# Altium footprint library Senior-Analog-batteryrecharge.PcbLib: 16 footprints
Each footprint in its own frame and in the unit in brackets; x right, y up, seen from the top. Pads: shape width x height; smd on the part's side, far side on the other; paste and mask are expansions set on the pad; w line width, h text height; cw(c..) or ccw(c..) is an arc to the next point about the centre after c.
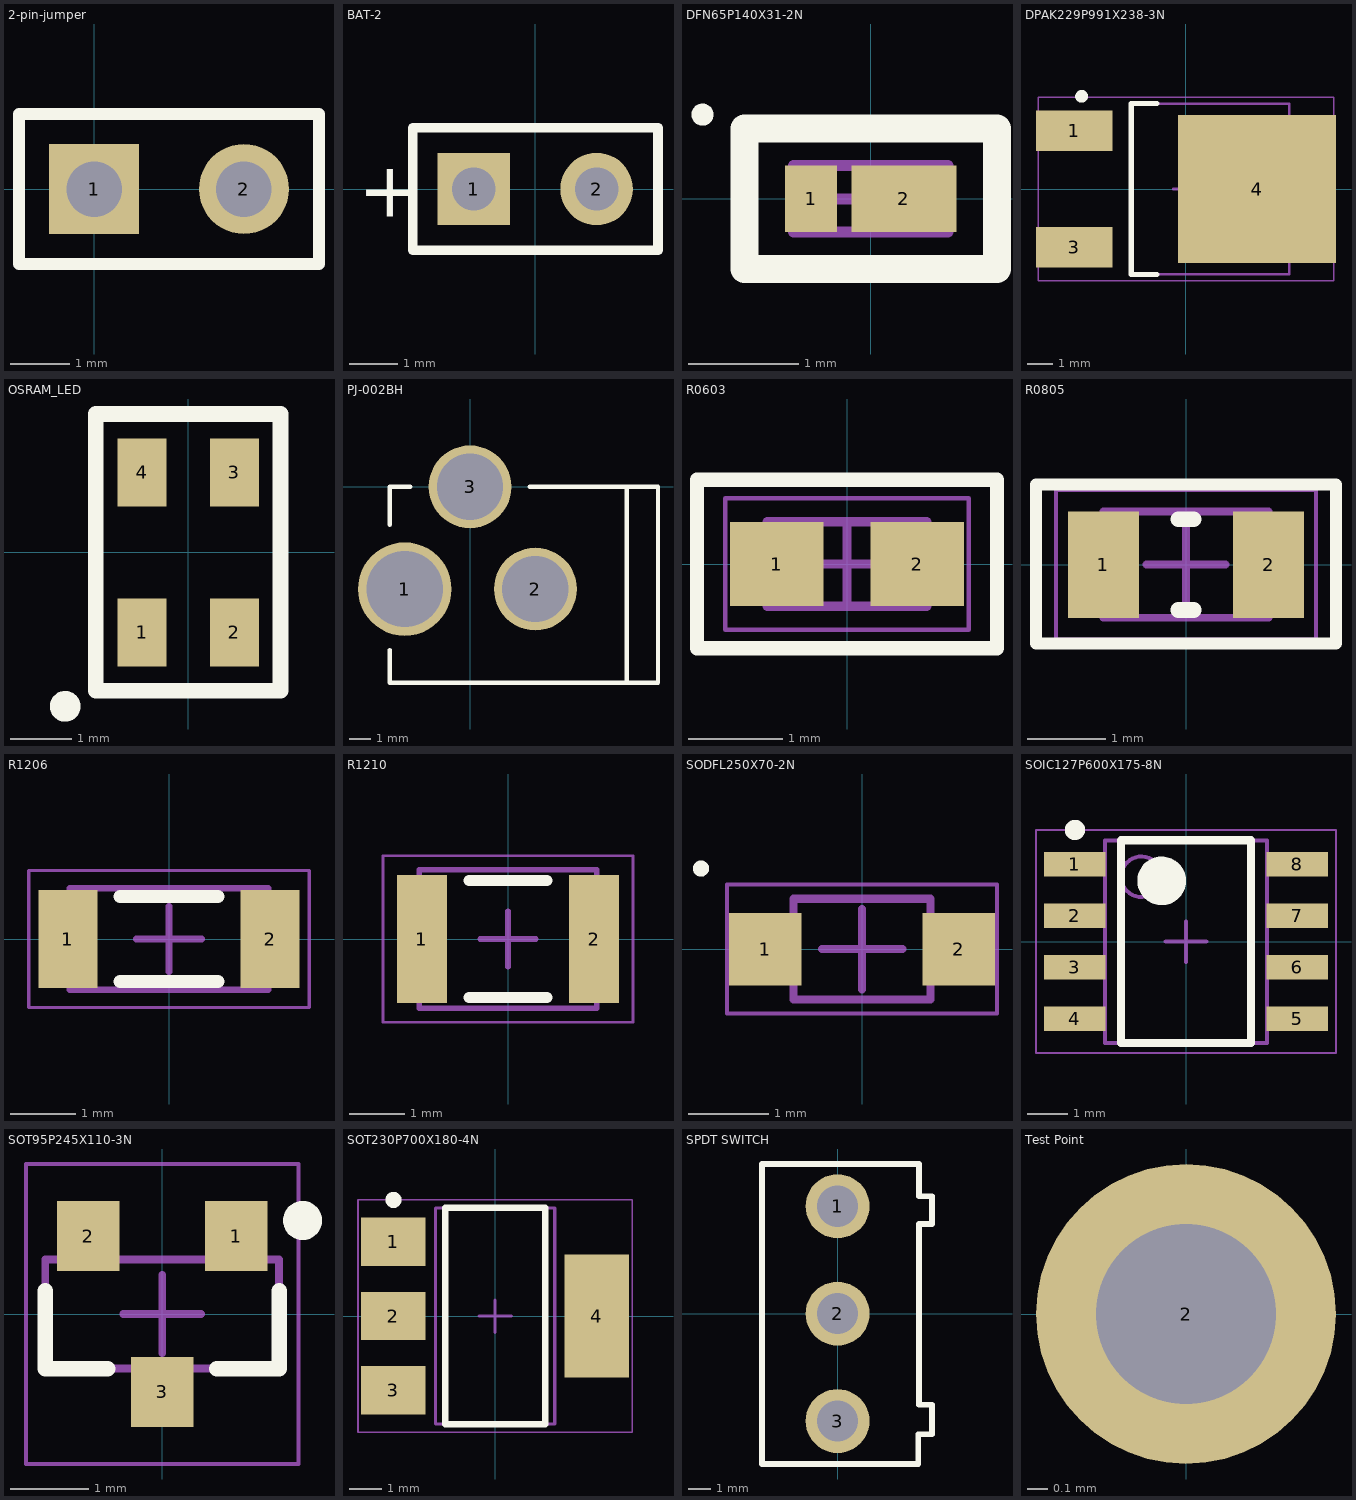
[diagram p0: the footprints below, top view; thin cyan lines are the x and y axes]

## 2-pin-jumper [mil]
pads (2):
  rect 60x60 hole 37: 1(0,0)
  round 60 hole 37: 2(100,0)
Top Overlay:
  lines w7.87: -50,-50 -50,50 150,50 150,-50 -50,-50

## BAT-2 [mm] "Battery; 2 Leads"
pads (2):
  rect 1.5x1.5 hole 0.9: 1(-1.27,0)
  round 1.5 hole 0.9: 2(1.27,0)
Top Overlay:
  lines w0.2: -2.54,-1.27 2.54,-1.27 2.54,1.27 -2.54,1.27 -2.54,-1.27
  text "+" at -3.67,-0.577 h1.15

## DFN65P140X31-2N [mm] "DFN, 2-Leads, Body 0.60x1.40mm, Pitch 0.65mm, IPC Medium Density"
height 0.31
pads (2):
  rect 0.47x0.6 smd: 1(-0.54,0)
  rect 0.95x0.6 smd: 2(0.3,0)
Top Overlay:
  circle w0.1: c-1.524,0.762 r0.05
  lines w0.254: -1.143,-0.635 1.143,-0.635 1.143,0.635 -1.143,0.635 -1.143,-0.635
Mechanical 13:
  lines w0.1: -0.7,-0.3 0.7,-0.3 0.7,0.3 -0.7,0.3 -0.7,-0.3
Mechanical 15:
  lines w0.1: -0.5,0 0.5,0
3D body: height 0.31, standoff 0.05, extent -0.7,-0.3 0.7,0.3

## DPAK229P991X238-3N [mm] "D-PAK, 3-Pads, Body 6.20x6.72mm (max), IPC Medium Density"
height 2.38
pads (3):
  rect 3x1.6 smd: 1(-4.39,2.29) 3(-4.39,-2.29)
  rect 6.2x5.8 smd: 4(2.79,0)
Top Overlay:
  circle w0.25: c-4.1,3.64 r0.125
  lines w0.2: -1.15,-3.35 -2.15,-3.35 -2.15,3.35 -1.15,3.35
Mechanical 13:
  lines w0.1: -2.15,-3.35 4.05,-3.35 4.05,3.35 -2.15,3.35 -2.15,-3.35
Mechanical 15:
  lines w0.05: -5.8,-3.6 5.8,-3.6 5.8,3.6 -5.8,3.6 -5.8,-3.6
  lines w0.1: -0.5,0 0.5,0 ; 0,-0.5 0,0.5
3D body: height 2.38, standoff 0, extent -0.508,-3.35 5.692,3.35

## OSRAM_LED [mm]
pads (4):
  rect 0.8x1.1 smd: 1(-0.75,-1.3) 2(0.75,-1.3) 3(0.75,1.3) 4(-0.75,1.3)
Top Overlay:
  circle w0.25: c-2,-2.5 r0.125
  lines w0.254: -1.5,-2.25 1.5,-2.25 1.5,2.25 -1.5,2.25 -1.5,-2.25

## PJ-002BH [mm] "2.5 mm Center Pin, 5.0 A, Right Angle, Through Hole, Dc Power Jack Connector"
pads (3):
  round 4.3 hole 3.5 paste+0: 1(-3,-4.7)
  round 3.81 hole 3.048 paste+0: 2(3,-4.7) 3(0,0)
Top Overlay:
  lines w0.203: -3.7,-7.5 -3.7,-9 8.636,-9 8.636,0 2.75,0 ; -3.7,-1.75 -3.7,0 -2.75,0 ; 7.2,-9 7.2,0

## R0603 [mm] "Chip Resistor, 2-Leads, Body 1.60x0.80mm, IPC Medium Density"
height 0.55
pads (2):
  rect 1x0.9 smd: 1(-0.75,0) 2(0.75,0)
Top Overlay:
  lines w0.152: -1.6,-0.9 1.6,-0.9 1.6,0.9 -1.6,0.9 -1.6,-0.9
Mechanical 13:
  lines w0.1: -0.85,-0.45 0.85,-0.45 0.85,0.45 -0.85,0.45 -0.85,-0.45
Mechanical 15:
  lines w0.05: -1.3,-0.7 1.3,-0.7 1.3,0.7 -1.3,0.7 -1.3,-0.7
  lines w0.1: -0.45,0 0.45,0 ; 0,-0.45 0,0.45
3D body: height 0.55, standoff 0, extent 0.6,-0.45 0.85,0.45
3D body: height 0.55, standoff 0, extent -0.85,-0.45 -0.6,0.45
3D body: height 0.55, standoff 0, extent -0.6,-0.45 0.6,0.45

## R0805 [mm] "Chip Resistor, 2-Leads, Body 2.00x1.25mm, IPC Medium Density"
height 0.6
pads (2):
  rect 0.9x1.35 smd: 1(-1.05,0) 2(1.05,0)
Top Overlay:
  lines w0.152: -1.905,-1 1.905,-1 1.905,1.016 -1.905,1.016 -1.905,-1
  lines w0.2: -0.1,-0.575 0.1,-0.575 ; -0.1,0.575 0.1,0.575
Mechanical 13:
  lines w0.1: -1.05,-0.675 -1.05,0.675 1.05,0.675 1.05,-0.675 -1.05,-0.675
Mechanical 15:
  lines w0.05: -1.65,-0.95 -1.65,0.95 1.65,0.95 1.65,-0.95 -1.65,-0.95
  lines w0.1: -0.5,0 0.5,0 ; 0,-0.5 0,0.5
3D body: height 0.6, standoff 0, extent -0.7,-0.675 0.7,0.675
3D body: height 0.6, standoff 0, extent -1.05,-0.675 -0.7,0.675
3D body: height 0.6, standoff 0, extent 0.7,-0.675 1.05,0.675

## R1206 [mm] "Chip Resistor, 2-Leads, Body 3.05x1.55mm, IPC Medium Density"
height 0.55
pads (2):
  rect 0.9x1.5 smd: 1(-1.55,0) 2(1.55,0)
Top Overlay:
  lines w0.2: -0.75,-0.65 0.75,-0.65 ; -0.75,0.65 0.75,0.65
Mechanical 13:
  lines w0.1: -1.525,-0.775 1.525,-0.775 1.525,0.775 -1.525,0.775 -1.525,-0.775
Mechanical 15:
  lines w0.05: -2.15,-1.05 2.15,-1.05 2.15,1.05 -2.15,1.05 -2.15,-1.05
  lines w0.1: -0.5,0 0.5,0 ; 0,-0.5 0,0.5
3D body: height 0.55, standoff 0, extent 1.175,-0.775 1.525,0.775
3D body: height 0.55, standoff 0, extent -1.525,-0.775 -1.175,0.775
3D body: height 0.55, standoff 0, extent -1.175,-0.775 1.175,0.775

## R1210 [mm] "Chip Resistor, 2-Leads, Body 3.20x2.50mm, IPC Medium Density"
height 0.55
pads (2):
  rect 0.9x2.3 smd: 1(-1.55,0) 2(1.55,0)
Top Overlay:
  lines w0.2: -0.7,-1.05 0.7,-1.05 ; -0.7,1.05 0.7,1.05
Mechanical 13:
  lines w0.1: -1.6,-1.25 -1.6,1.25 1.6,1.25 1.6,-1.25 -1.6,-1.25
Mechanical 15:
  lines w0.05: -2.25,-1.5 -2.25,1.5 2.25,1.5 2.25,-1.5 -2.25,-1.5
  lines w0.1: -0.5,0 0.5,0 ; 0,-0.5 0,0.5
3D body: height 0.55, standoff 0, extent -1.1,-1.25 1.1,1.25
3D body: height 0.55, standoff 0, extent -1.6,-1.25 -1.1,1.25
3D body: height 0.55, standoff 0, extent 1.1,-1.25 1.6,1.25

## SODFL250X70-2N [mm] "SODFL, 2-Leads, Body 1.25x2.50mm, IPC Medium Density"
height 0.7
pads (2):
  rect 0.9x0.9 smd: 1(-1.2,0) 2(1.2,0)
Top Overlay:
  circle w0.1: c-2,1 r0.05
Mechanical 13:
  lines w0.1: -0.85,-0.625 -0.85,0.625 0.85,0.625 0.85,-0.625 -0.85,-0.625
Mechanical 15:
  lines w0.05: -1.675,-0.8 -1.675,0.8 1.675,0.8 1.675,-0.8 -1.675,-0.8
  lines w0.1: -0.5,0 0.5,0 ; 0,-0.5 0,0.5
3D body: height 0.7, standoff 0, extent -0.85,-0.625 0.85,0.625

## SOIC127P600X175-8N [mm] "SOIC, 8-Leads, Body 4.90x3.90mm, Pitch 1.27mm, IPC Medium Density"
height 1.75
pads (8):
  rect 1.52x0.6 smd: 1(-2.74,1.905) 2(-2.74,0.635) 3(-2.74,-0.635) 4(-2.74,-1.905) 5(2.74,-1.905) 6(2.74,-0.635) 7(2.74,0.635) 8(2.74,1.905)
Top Overlay:
  circle w0.25: c-2.74,2.755 r0.125
  circle w0.6: c-0.6,1.5 r0.3
  lines w0.2: -1.6,-2.5 -1.6,2.5 1.6,2.5 1.6,-2.5 -1.6,-2.5
Mechanical 13:
  circle w0.1: c-1.1,1.6 r0.5
  lines w0.1: -2,-2.5 -2,2.5 2,2.5 2,-2.5 -2,-2.5
Mechanical 15:
  lines w0.05: -3.7,-2.75 -3.7,2.75 3.7,2.75 3.7,-2.75 -3.7,-2.75
  lines w0.1: -0.5,0 0.5,0 ; 0,-0.5 0,0.5
3D body: height 1.75, standoff 0.25, extent -2,-2.5 2,2.5

## SOT95P245X110-3N [mm] "SOT23, 3-Leads, Body 2.90x2.45mm, Pitch 0.95mm, IPC Medium Density"
height 1.1
pads (3):
  rect 0.8x0.9 smd: 1(0.95,1) 2(-0.95,1) 3(0,-1)
Top Overlay:
  circle w0.25: c1.8,1.2 r0.125
  lines w0.2: -1.5,0.3 -1.5,-0.7 -0.7,-0.7 ; 0.7,-0.7 1.5,-0.7 1.5,0.3
Mechanical 13:
  lines w0.1: -1.5,-0.7 -1.5,0.7 1.5,0.7 1.5,-0.7 -1.5,-0.7
Mechanical 15:
  lines w0.05: -1.75,-1.925 -1.75,1.925 1.75,1.925 1.75,-1.925 -1.75,-1.925
  lines w0.1: -0.5,0 0.5,0 ; 0,-0.5 0,0.5
3D body: height 1.1, standoff 0.1, extent -1.5,-0.7 1.5,0.7

## SOT230P700X180-4N [mm] "SOT223, 4-Leads, Body 6.50x7.00mm (avg), Pitch 2.30mm, IPC Medium Density"
height 1.8
pads (4):
  rect 2x1.5 smd: 1(-3.15,2.3) 2(-3.15,0) 3(-3.15,-2.3)
  rect 2x3.8 smd: 4(3.15,0)
Top Overlay:
  circle w0.25: c-3.15,3.6 r0.125
  lines w0.2: -1.55,-3.35 -1.55,3.35 1.55,3.35 1.55,-3.35 -1.55,-3.35
Mechanical 13:
  lines w0.1: -1.85,-3.35 -1.85,3.35 1.85,3.35 1.85,-3.35 -1.85,-3.35
Mechanical 15:
  lines w0.05: -4.25,-3.6 -4.25,3.6 4.25,3.6 4.25,-3.6 -4.25,-3.6
  lines w0.1: -0.5,0 0.5,0 ; 0,-0.5 0,0.5
3D body: height 1.8, standoff 0.02, extent -1.85,-3.35 1.85,3.35

## SPDT SWITCH [mm]
pads (3):
  round 2.8 hole 1.8: 1(0,4.7) 2(0,0) 3(0,-4.7)
Top Overlay:
  lines w0.254: -3.305,-6.58 3.53,-6.58 3.53,-5.28 4.13,-5.28 4.13,-3.99 3.57,-3.99 3.57,3.93 4.13,3.93 4.13,5.135 3.565,5.135 3.565,6.55 -3.305,6.55 -3.305,-6.58
3D body "MS12ANA03.stp": height 11.52, standoff -6.33, extent -3.112,-6.365 4,6.335

## Test Point [mm]
pads (1):
  round 1.5 hole 0.9: 2(0,0)